# EAGLE library part ULN2003_DRIVER (library roboGech_devices)
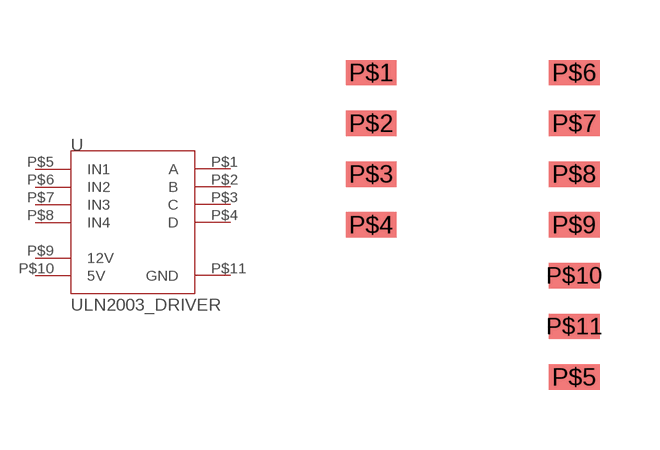
[diagram p1: symbol with the pads of MOCK_ULN2003_DRIVER; footprint MOCK_ULN2003_DRIVER]

Designator prefix -

## ULN2003_DRIVER  [MOCK_ULN2003_DRIVER]
P$1  A  out
P$2  B  out
P$3  C  out
P$4  D  out
P$5  IN1  in
P$6  IN2  in
P$7  IN3  in
P$8  IN4  in
P$9  12V  pwr
P$10  5V  pwr
P$11  GND  pwr

## Footprint MOCK_ULN2003_DRIVER (pad centres in mm)
FAKE FOOTPRINT
smd 1.27 x 0.635: P$1 -8.89,5.08; P$2 -8.89,3.81; P$3 -8.89,2.54; P$4 -8.89,1.27; P$5 -3.81,-2.54; P$6 -3.81,5.08; P$7 -3.81,3.81; P$8 -3.81,2.54; P$9 -3.81,1.27; P$10 -3.81,0; P$11 -3.81,-1.27